# EAGLE library part DG407 (library vishay)
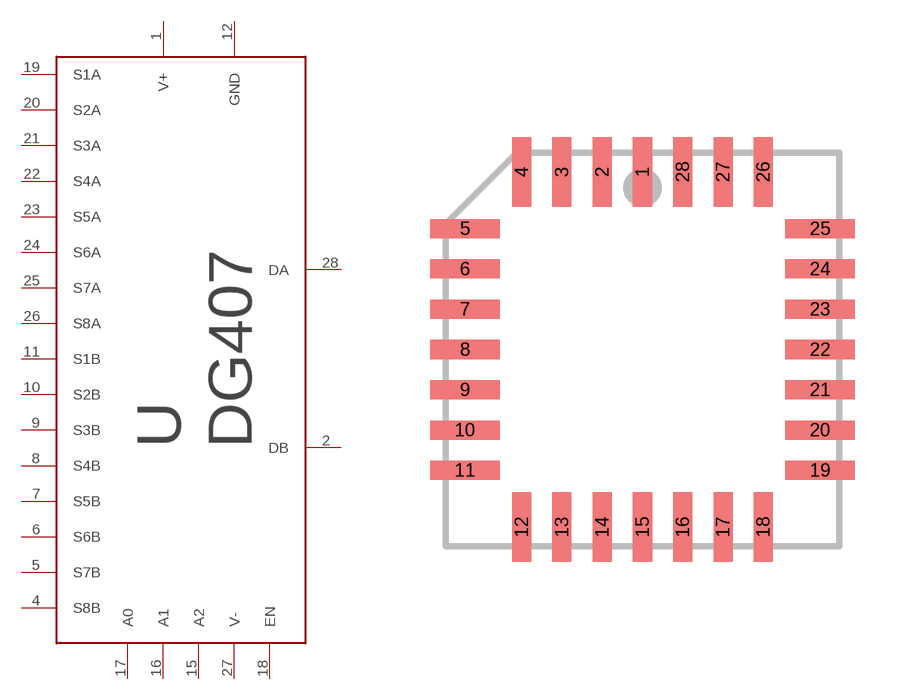
[diagram p0: symbol with the pads of PLCC28S; footprint PLCC28S]

Designator prefix -

## DG407  [PLCC28S]
1  V+
2  DB
4  S8B
5  S7B
6  S6B
7  S5B
8  S4B
9  S3B
10  S2B
11  S1B
12  GND
15  A2
16  A1
17  A0
18  EN
19  S1A
20  S2A
21  S3A
22  S4A
23  S5A
24  S6A
25  S7A
26  S8A
27  V-
28  DA

## Footprint PLCC28S (pad centres in mm)
PLASTIC LEADED CHIP CARRIER square
smd 0.6 x 2.2: 1 0,5.6; 2 -1.27,5.6; 3 -2.54,5.6; 4 -3.81,5.6; 12 -3.81,-5.6; 13 -2.54,-5.6; 14 -1.27,-5.6; 15 0,-5.6; 16 1.27,-5.6; 17 2.54,-5.6; 18 3.81,-5.6; 26 3.81,5.6; 27 2.54,5.6; 28 1.27,5.6
smd 2.2 x 0.6: 5 -5.6,3.81; 6 -5.6,2.54; 7 -5.6,1.27; 8 -5.6,0; 9 -5.6,-1.27; 10 -5.6,-2.54; 11 -5.6,-3.81; 19 5.6,-3.81; 20 5.6,-2.54; 21 5.6,-1.27; 22 5.6,0; 23 5.6,1.27; 24 5.6,2.54; 25 5.6,3.81